# EAGLE library part 5-PIN-90-DEGREE-FEMALE-DIN (library CC2-BufferPack-V1R0-21-May-2019)
Female CONNECTOR 5 pins 90 deg. with shield, horizontal (DIN 41524)
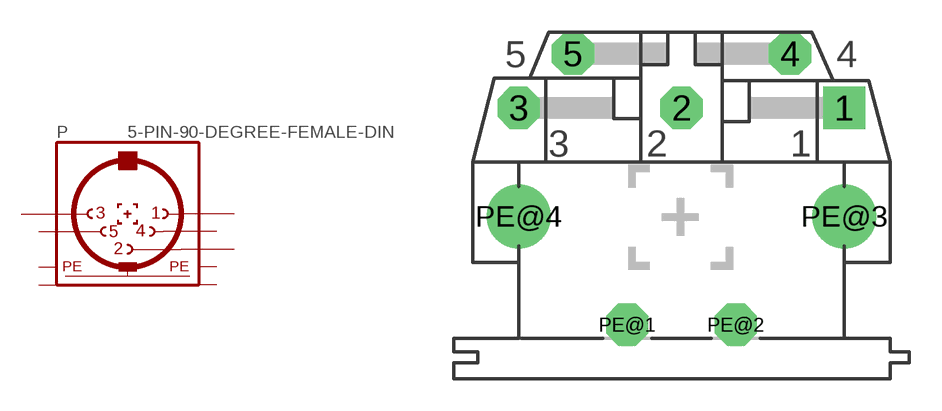
[diagram p5: symbol with the pads of 5-PIN-90-DEGREE-FEMALE-DIN; footprint 5-PIN-90-DEGREE-FEMALE-DIN]

Designator prefix P

## 5-PIN-90-DEGREE-FEMALE-DIN-5P90D  [5-PIN-90-DEGREE-FEMALE-DIN]
1  1  pas
2  2  pas
3  3  pas
4  4  pas
5  5  pas
PE@1  PE  pwr
PE@2  PE  pwr
PE@3  PE  pwr
PE@4  PE  pwr

## Footprint 5-PIN-90-DEGREE-FEMALE-DIN (pad centres in mm)
Female CONNECTOR 5 pins 90 deg. with shield, horizontal (DIN 41524)
drill 1.321 square: 1 7.62,5.08
drill 1.321 octagon: 2 0,5.08; 3 -7.62,5.08; 4 5.08,7.62; 5 -5.08,7.62; PE@1 -2.54,-5.08; PE@2 2.54,-5.08
drill 2 round: PE@3 7.62,0; PE@4 -7.62,0